# Altium schematic symbol library S-80847CNMC-B88T2G.SchLib: 1 symbol
Pins are listed as number, name and electrical type; pins without a type are passive.

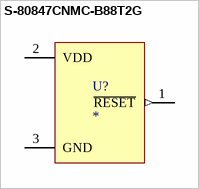
[diagram p0: symbol S-80847CNMC-B88T2G]

## S-80847CNMC-B88T2G
designator U?
Reset Supervisor, 4.7V; farnell: 1607109
footprint S-80847CNMC-B88T2G (Reset Supervisor, 4.7V)
pins: 1 ~{RESET} (out), 2 VDD (power), 3 GND (power)